# EAGLE library part I6A4W020A033V-001-R (library I6A4W020A033V-001-R)
Dc-Dc, Pcb Mount, Sixteenth Brick, Input 24vdc, Output 3.3-15v 20a, 250w, Neg Logic
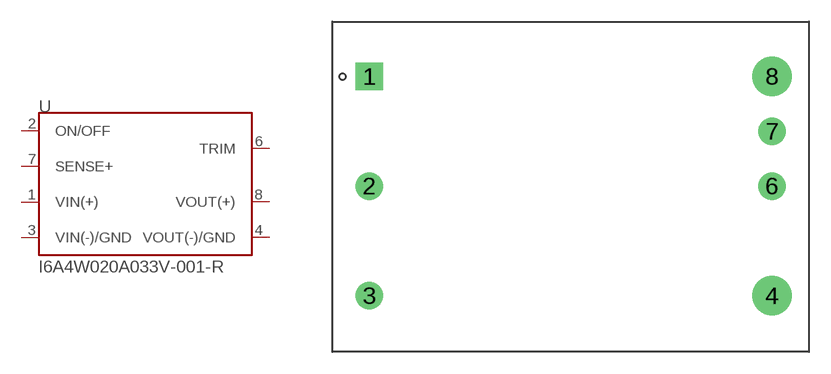
[diagram p0: symbol with the pads of TDK-LAMBDA_I6A4W020A033V-001-R; footprint TDK-LAMBDA_I6A4W020A033V-001-R]

Designator prefix U

## I6A4W020A033V-001-R (Description: Non-Isolated PoL Module DC DC Converter 1 Output 3.3 ~ 15V 20A 9V - 53V Input; Digi-Key_Part_Number: 285-2503-ND; MF: TDK-Lambda Americas; MP: I6A4W020A033V-001-R; Mouser-Purchase-URL: https://snapeda.com/shop?store=Mouser&id=1737324; Package: DIP-7 TDK-Lambda)  [TDK-LAMBDA_I6A4W020A033V-001-R]
1  VIN(+)  in
2  ON/OFF  in
3  VIN(-)/GND  pwr
4  VOUT(-)/GND  pwr
6  TRIM  pas
7  SENSE+  in
8  VOUT(+)  out

## Footprint TDK-LAMBDA_I6A4W020A033V-001-R (pad centres in mm)
drill 1.274 square: 1 -13.95,7.6
drill 1.274: 2 -13.95,0; 3 -13.95,-7.6; 6 13.95,0; 7 13.95,3.8
drill 1.824: 4 13.95,-7.6; 8 13.95,7.6